# Altium footprint library supertex.PCBLIB: 2 footprints
Each footprint in its own frame and in the unit in brackets; x right, y up, seen from the top. Pads: shape width x height; smd on the part's side, far side on the other; paste and mask are expansions set on the pad; w line width, h text height; cw(c..) or ccw(c..) is an arc to the next point about the centre after c.
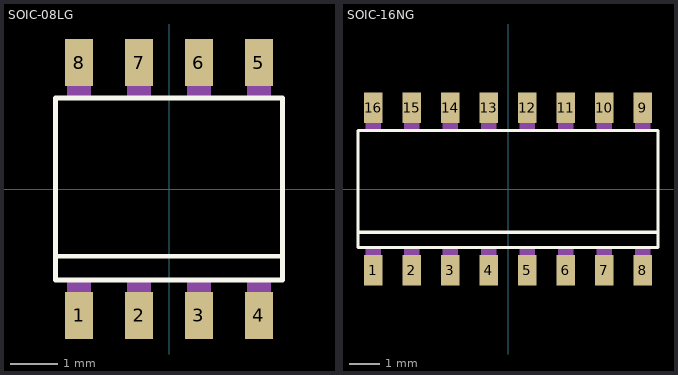
[diagram p0: the footprints below, top view; thin cyan lines are the x and y axes]

## SOIC-08LG [mm]
pads (8):
  rect 0.6x1 smd: 1(-1.905,-2.675) 2(-0.635,-2.675) 3(0.635,-2.675) 4(1.905,-2.675) 5(1.905,2.675) 6(0.635,2.675) 7(-0.635,2.675) 8(-1.905,2.675)
Top Overlay:
  lines w0.102: -2.405,-1.425 2.405,-1.425 ; 2.405,-1.425 2.405,1.925 -2.405,1.925 -2.405,-1.925 2.405,-1.925 2.405,-1.425
Mechanical 16:
  rectangle: -2.155,-3.1 -1.655,-1.95
  rectangle: -0.885,-3.1 -0.385,-1.95
  rectangle: 0.385,-3.1 0.885,-1.95
  rectangle: 1.655,-3.1 2.155,-1.95
  region: 2.155,3.1 1.655,3.1 1.655,1.95 2.155,1.95
  region: 0.885,3.1 0.385,3.1 0.385,1.95 0.885,1.95
  region: -0.385,3.1 -0.885,3.1 -0.885,1.95 -0.385,1.95
  region: -1.655,3.1 -2.155,3.1 -2.155,1.95 -1.655,1.95

## SOIC-16NG [mm]
pads (16):
  rect 0.6x1 smd: 1(-4.445,-2.675) 2(-3.175,-2.675) 3(-1.905,-2.675) 4(-0.635,-2.675) 5(0.635,-2.675) 6(1.905,-2.675) 7(3.175,-2.675) 8(4.445,-2.675) 9(4.445,2.675) 10(3.175,2.675) 11(1.905,2.675) 12(0.635,2.675) 13(-0.635,2.675) 14(-1.905,2.675) 15(-3.175,2.675) 16(-4.445,2.675)
Top Overlay:
  lines w0.102: -4.945,-1.425 4.945,-1.425 ; 4.945,-1.425 4.945,1.925 -4.945,1.925 -4.945,-1.925 4.945,-1.925 4.945,-1.425
Mechanical 16:
  rectangle: -4.695,-3.1 -4.195,-1.95
  rectangle: -3.425,-3.1 -2.925,-1.95
  rectangle: -2.155,-3.1 -1.655,-1.95
  rectangle: -0.885,-3.1 -0.385,-1.95
  rectangle: 0.385,-3.1 0.885,-1.95
  rectangle: 1.655,-3.1 2.155,-1.95
  rectangle: 2.925,-3.1 3.425,-1.95
  rectangle: 4.195,-3.1 4.695,-1.95
  region: 4.695,3.1 4.195,3.1 4.195,1.95 4.695,1.95
  region: 3.425,3.1 2.925,3.1 2.925,1.95 3.425,1.95
  region: 2.155,3.1 1.655,3.1 1.655,1.95 2.155,1.95
  region: 0.885,3.1 0.385,3.1 0.385,1.95 0.885,1.95
  region: -0.385,3.1 -0.885,3.1 -0.885,1.95 -0.385,1.95
  region: -1.655,3.1 -2.155,3.1 -2.155,1.95 -1.655,1.95
  region: -2.925,3.1 -3.425,3.1 -3.425,1.95 -2.925,1.95
  region: -4.195,3.1 -4.695,3.1 -4.695,1.95 -4.195,1.95